# Altium schematic symbol library SchematicLibrary.SchLib: 20 symbols
Pins are listed as number, name and electrical type; pins without a type are passive.

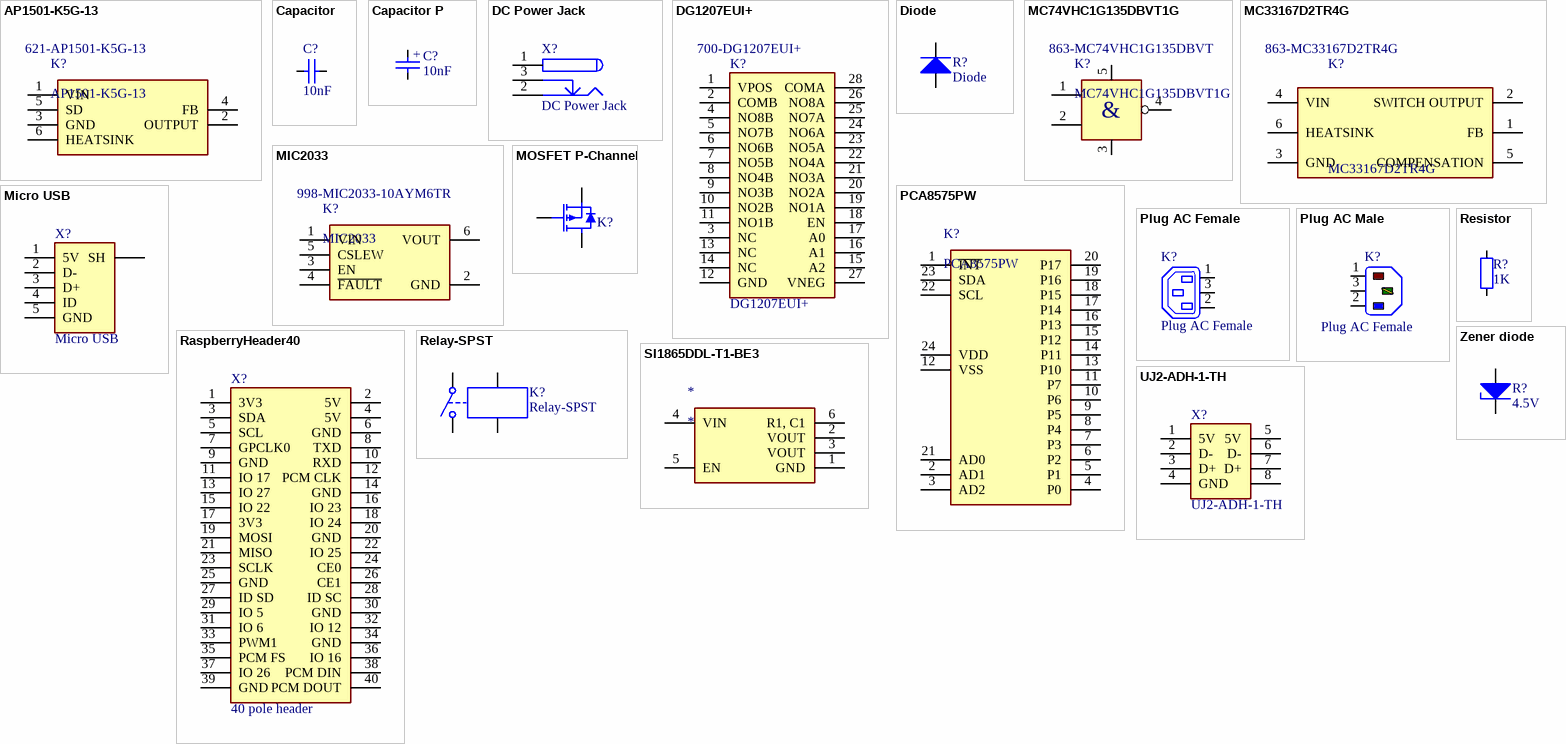
[diagram p0: symbols AP1501-K5G-13 to Zener diode]

## AP1501-K5G-13
designator K?  Supplier Part Number 1: 621-AP1501-K5G-13
Switching Voltage Regulators; ComponentLink1Description: New link; ComponentLink1URL: https://www.mouser.ch/ProductDetail/Diodes-Incorporated/AP1501-K5G-13?qs=%2Fha2pyFaduh7%252BHz23V2KcD1UGDob8qiicWPpp%2F%2FWUHCQ5NeehxH4og%3D%3D; Supplier 1: Mouser
footprint TO-263-5L
pins: 1 VIN, 2 OUTPUT, 3 GND, 4 FB, 5 SD, 6 HEATSINK

## Capacitor
designator C?  value 10nF  (hidden comment: Capacitor)
Non polarized capacitor; LatestRevisionDate: 01.04.2019; Publisher: ICT Berufsbildungscenter AG
footprint CAP CER 0402 R (0402 ceramic capacitor for reflow soldering)
footprint CAP CER 0603 H (0603 ceramic capacitor for hand soldering)
footprint CAP CER 0603 R (0603 ceramic capacitor for reflow soldering)
footprint CAP CER 0805 H (0805 resistor for hand soldering)
footprint CAP CER 0805 R (0805 ceramic capacitor for reflow soldering)
footprint CAP CER 1206 H (1206 ceramic capacitor for hand soldering)
footprint CAP CER 1206 R (1206 ceramic capacitor for reflow soldering)
footprint CAP CER 1210 H (1210 ceramic capacitor for hand soldering)
footprint CAP CER 1210 R (1210 ceramic capacitor for reflow soldering)
footprint CAP FILM 5mm (film capacitor with a 5mm pitch)
footprint CAP FILM 7.5mm (film capacitor with a 7.5mm pitch)
footprint CAP FILM 10mm (film capacitor with a 10mm pitch)
footprint CAP FILM 15mm (film capacitor with a 15mm pitch)
footprint CAP FILM 22.5mm (film capacitor with a 22.5mm pitch)
footprint CAP CER 2.5mm (ceramic capacitor for tht mount with a 2.5mm pitch)
footprint CAP CER 3.75mm (ceramic capacitor for tht mount with a 3.75mm pitch)
footprint CAP CER 5mm (ceramic capacitor for tht mount with a 5mm pitch)
pins: 1, 2

## Capacitor P
designator C?, comment value 10nF  (hidden comment: Capacitor)
Polarized Capacitor; LatestRevisionDate: 02.04.2019; Publisher: ICT Berufsbildungscenter AG
footprint CAP TAN A H (tantalum chip coapcitor casetype A for hand soldering)
footprint CAP TAN A R (tantalum chip coapcitor casetype A for reflow soldering)
footprint CAP TAN B H (tantalum chip coapcitor casetype B for hand soldering)
footprint CAP TAN B R (tantalum chip coapcitor casetype B for reflow soldering)
footprint CAP TAN C H (tantalum chip coapcitor casetype C for hand soldering)
footprint CAP TAN C R (tantalum chip coapcitor casetype C for reflow soldering)
footprint CAP TAN D H (tantalum chip coapcitor casetype D for hand soldering)
footprint CAP TAN D R (tantalum chip coapcitor casetype D for reflow soldering)
footprint CAP TAN R H (tantalum chip coapcitor casetype R for hand soldering)
footprint CAP TAN R R (tantalum chip coapcitor casetype R for reflow soldering)
footprint CAP ELKO 5x7x2 L (aluminium electrolytic capacitor lying on the pcb / d=5, h=7, pitch = 2)
footprint CAP ELKO 5x7x2 S (aluminium electrolytic capacitor standing upright on the pcb / d=5, h=7, pitch = 2)
footprint CAP ELKO 5x11x2 L (aluminium electrolytic capacitor lying on the pcb / d=5, h=11, pitch = 2)
footprint CAP ELKO 5x11x2 S (aluminium electrolytic capacitor standing upright on the pcb / d=5, h=11, pitch = 2)
footprint CAP ELKO 6.3x7x2.5 L (aluminium electrolytic capacitor lying on the pcb / d=6.3, h=7, pitch = 2.5)
footprint CAP ELKO 6.3x7x2.5 S (aluminium electrolytic capacitor standing upright on the pcb / d=6.3, h=7, pitch = 2.5)
footprint CAP ELKO 6.3x11x2 L (aluminium electrolytic capacitor lying on the pcb / d=6.3, h=11, pitch = 2)
footprint CAP ELKO 6.3x11x2 S (aluminium electrolytic capacitor standing upright on the pcb / d=6.3, h=11, pitch = 2)
footprint CAP ELKO 6.3x11x2.5 L (aluminium electrolytic capacitor lying on the pcb / d=6.3, h=11, pitch = 2.5)
footprint CAP ELKO 6.3x11x2.5 S (aluminium electrolytic capacitor standing upright on the pcb / d=6.3, h=11, pitch = 2.5)
footprint CAP ELKO 6.3x12.5x2.5 L (aluminium electrolytic capacitor lying on the pcb / d=6.3, h=12.5, pitch = 2.5)
footprint CAP ELKO 6.3x12.5x2.5 S (aluminium electrolytic capacitor standing upright on the pcb / d=6.3, h=12.5, pitch = 2.5)
footprint CAP ELKO 8x11.5x3.5 L (aluminium electrolytic capacitor lying on the pcb / d=8, h=11.5, pitch = 3.5)
footprint CAP ELKO 8x11.5x3.5 S (aluminium electrolytic capacitor standing upright on the pcb / d=8, h=11.5, pitch = 3.5)
footprint CAP ELKO 10x12.5x5 L (aluminium electrolytic capacitor lying on the pcb / d=10, h=12.5, pitch = 5)
footprint CAP ELKO 10x12.5x5 S (aluminium electrolytic capacitor standing upright on the pcb / d=10, h=12.5, pitch = 5)
footprint CAP ELKO 10x16x5 L (aluminium electrolytic capacitor lying on the pcb / d=10, h=16, pitch = 5)
footprint CAP ELKO 10x16x5 S (aluminium electrolytic capacitor standing upright on the pcb / d=10, h=16, pitch = 5)
footprint CAP ELKO 10x20x5 S (aluminium electrolytic capacitor standing upright on the pcb / d=10, h=20, pitch = 5)
footprint CAP ELKO 10x25x5 S (aluminium electrolytic capacitor standing upright on the pcb / d=10, h=25, pitch = 5)
footprint CAP ELKO 12.5x20x5 S (aluminium electrolytic capacitor standing upright on the pcb / d=12.5, h=20, pitch = 5)
footprint CAP ELKO 12.5x25x5 S (aluminium electrolytic capacitor standing upright on the pcb / d=12.5, h=25, pitch = 5)
footprint CAP ELKO 12.5x30x5 S (aluminium electrolytic capacitor standing upright on the pcb / d=12.5, h=30, pitch = 5)
footprint CAP ELKO 16x20x7.5 S (aluminium electrolytic capacitor standing upright on the pcb / d=16, h=20, pitch = 7.5)
footprint CAP ELKO 16x25x7.5 S (aluminium electrolytic capacitor standing upright on the pcb / d=16, h=25, pitch = 7.5)
footprint CAP ELKO 16x31.5x7.5 S (aluminium electrolytic capacitor standing upright on the pcb / d=16, h=31.5, pitch = 7.5)
footprint CAP ELKO 16x40x7.5 S (aluminium electrolytic capacitor standing upright on the pcb / d=16, h=40, pitch = 7.5)
footprint CAP ELKO 18x20x7.5 S (aluminium electrolytic capacitor standing upright on the pcb / d=18, h=20, pitch = 7.5)
footprint CAP ELKO 18x25x7.5 S (aluminium electrolytic capacitor standing upright on the pcb / d=18, h=25, pitch = 7.5)
footprint CAP ELKO 18x30x7.5 S (aluminium electrolytic capacitor standing upright on the pcb / d=18, h=30, pitch = 7.5)
footprint CAP ELKO 18x40x7.5 S (aluminium electrolytic capacitor standing upright on the pcb / d=18, h=40, pitch = 7.5)
footprint CAP ELKO B H (aluminium electrolytic capacitor surface mount case B)
footprint CAP ELKO C H (aluminium electrolytic capacitor surface mount case C)
footprint CAP ELKO D H (aluminium electrolytic capacitor surface mount case D)
footprint CAP ELKO D8 H (aluminium electrolytic capacitor surface mount case D8)
footprint CAP ELKO E H (aluminium electrolytic capacitor surface mount case E)
footprint CAP ELKO F H (aluminium electrolytic capacitor surface mount case F)
footprint CAP ELKO G H (aluminium electrolytic capacitor surface mount case G)
footprint CAP ELKO H13 H (aluminium electrolytic capacitor surface mount case H13)
footprint CAP ELKO J16 H (aluminium electrolytic capacitor surface mount case J16)
footprint CAP ELKO K16 H (aluminium electrolytic capacitor surface mount case K16)
footprint CAP TAN 2.5mm
pins: A Anode, C Cathode
text: +

## DC Power Jack
designator X?
DC Power Jack 9V
pins: 1, 2, 3

## DG1207EUI+
designator K?  Supplier Part Number 1: 700-DG1207EUI+
Analog Switch ICs; Manufacturer_Name: Maxim Integrated; Datasheet Link: https://datasheets.maximintegrated.com/en/ds/DG1206-DG1207.pdf; Height: 1.1mm; Manufacturer_Part_Number: DG1207EUI+; Mouser Part Number: 700-DG1207EUI+; Mouser Price/Stock: https://www.mouser.co.uk/ProductDetail/Maxim-Integrated/DG1207EUI%2b?qs=DPoM0jnrROX2%252BoIpSyCc8Q%3D%3D; ComponentLink1Description: New link; ComponentLink1URL: https://www.mouser.ch/ProductDetail/Maxim-Integrated/DG1207EUI%2b?qs=DPoM0jnrROX2%252BoIpSyCc8Q%3D%3D; Supplier 1: Mouser
footprint SOP65P640X110-28N
pins: 1 VPOS, 2 COMB, 3 NC, 4 NO8B, 5 NO7B, 6 NO6B, 7 NO5B, 8 NO4B, 9 NO3B, 10 NO2B, 11 NO1B, 12 GND, 13 NC, 14 NC, 15 A2, 16 A1, 17 A0, 18 EN, 19 NO1A, 20 NO2A, 21 NO3A, 22 NO4A, 23 NO5A, 24 NO6A, 25 NO7A, 26 NO8A, 27 VNEG, 28 COMA

## Diode
designator R?
LatestRevisionDate: 03.04.2019; Publisher: ICT Berufsbildungscenter AG
footprint Diode 5mm (Diode for tht mounting with a 5mm pitch)
footprint Diode 7.5mm (Diode for tht mounting with a 7.5mm pitch)
footprint Diode 10mm (Diode for tht mounting with a 10mm pitch)
footprint Diode 12.5mm (Diode for tht mounting with a 12.5mm pitch)
footprint Diode SOD123 H (Diode in SOD123 Case for hand soldering)
footprint Diode SOD123 R (Diode in SOD123 Case for reflow soldering)
footprint Diode DO-214AA SMB H (Diode in DO-214AA (same as SMB) package for hand soldering)
footprint Diode DO-214AB SMC H (Diode in DO-214AB (same as SMC) package for hand soldering)
footprint Diode DO-214AC SMA H (Diode in DO-214AC (same as SMA) package for hand soldering)
footprint Diode DO-214AA SMB R (Diode in DO-214AA (same as SMB) package for reflow soldering)
footprint Diode DO-214AB SMC R (Diode in DO-214AB (same as SMC) package for reflow soldering)
footprint Diode DO-214AC SMA R (Diode in DO-214AC (same as SMA) package for reflow soldering)
pins: A Anode, C Cathode

## MC74VHC1G135DBVT1G
designator K?  Supplier Part Number 1: 863-MC74VHC1G135DBVT
Supplier 1: Mouser
pins: 1 A, 2 B, 3 GND, 4 Y, 5 VCC
text: &

## MC33167D2TR4G
designator K?  Supplier Part Number 1: 863-MC33167D2TR4G
Switching Voltage Regulators; Manufacturer_Name: ON Semiconductor; Datasheet Link: https://www.onsemi.com/pub/Collateral/MC34167-D.PDF; Manufacturer_Part_Number: MC33167D2TR4G; Mouser Part Number: 863-MC33167D2TR4G; Mouser Price/Stock: https://www.mouser.co.uk/ProductDetail/ON-Semiconductor/MC33167D2TR4G?qs=scuLso4UvAPiI8Zw378tbw%3D%3D; Arrow Part Number: MC33167D2TR4G; Arrow Price/Stock: https://www.arrow.com/en/products/mc33167d2tr4g/on-semiconductor; Supplier 1: Mouser
footprint TO-263-5
pins: 1 FB, 2 SWITCH OUTPUT, 3 GND, 4 VIN, 5 COMPENSATION, 6 HEATSINK

## MIC2033
designator K?  Supplier Part Number 1: 998-MIC2033-10AYM6TR
ComponentLink1Description: New link; ComponentLink1URL: https://www.mouser.ch/ProductDetail/Microchip-Technology-Micrel/MIC2033-10AYM6-TR?qs=Y3Q3JoKAO1RvbLJdilrfXQ%3D%3D; Supplier 1: Mouser
pins: 1 VIN, 2 GND, 3 EN, 4 ~{FAULT}, 5 CSLEW, 6 VOUT

## Micro USB
designator X?
board to board header; LatestRevisionDate: 02.05.2019; Publisher: ICT Berufsbildungscenter AG
footprint Header THT female 1x5 (header for tht mounting / pitch = 2.54mm)
footprint Header THT female 1x5 RA (right angled header for tht mounting / pitch = 2.54mm)
footprint Header THT male 1x5 (header for tht mounting / pitch = 2.54mm)
footprint Header THT male 1x5 RA (right angle header for tht mounting / pitch = 2.54mm)
footprint Header SMD Male 1x5 R (male header for smd mounting / pitch = 2.54mm / reflow soldering)
footprint Header SMD Male 1x5 H (male header for smd mounting / pitch = 2.54mm / hand soldering)
footprint Header SMD Male 1x5 RA H (right angled male header for smd mounting / pitch = 2.54mm / hand soldering)
pins: 1 5V, 2 D-, 3 D+, 4 ID, 5 GND, SH

## MOSFET P-Channel
designator K?  (value not drawn)
pins: 1 G, 2 S, 3 D

## PCA8575PW
designator K?
pins: 1 ~{INT}, 2 AD1, 3 AD2, 4 P0, 5 P1, 6 P2, 7 P3, 8 P4, 9 P5, 10 P6, 11 P7, 12 VSS, 13 P10, 14 P11, 15 P12, 16 P13, 17 P14, 18 P15, 19 P16, 20 P17, 21 AD0, 22 SCL, 23 SDA, 24 VDD

## Plug AC Female
designator K?
IEC Mains Power Outlet, EN60 320-2-2 F Class I, PC Flange Rear Mount, Chassis Socket; PackageDocument: ver.80, 15-Sep-2003; MaximumRating: 10A, 250V a.c. (UL & CSA 15A, 250V a.c.); MountingFixtures: Not drawn on schematic symbol.; PCB_Layout: Complies with manufacturer's recommendation.; DrillSize: Corresponds to nominal value.; Published: 15-Jul-2004; LatestRevisionDate: 15-Jul-2004; LatestRevisionNote: Component Replaced & renamed from "Phonejack".; DatasheetDocument: ver.80, 15-Sep-2003; PackageReference: PX0675/PC; Publisher: Altium Limited; Terminations: P.C. Spills; ComponentLink1Description: Manufacturer Link; ComponentLink1URL: http://www.bulgin.co.uk/
footprint IEC7-2H3 (Mains Power Outlet, IEC60 320-2-2 F, PC Flange Rear Mount)
pins: 1 L (power) "Live (Active)", 2 N (power) "Neutral", 3 E (power) "Earth (Ground)"

## Plug AC Male
designator K?, comment Plug AC Female
IEC Mains Power Inlet, EN60 320-1 C14 Class I Cold Condition, PC Flange Rear Mount, Chassis Plug; PackageDocument: ver.80, 15-Sep-2003; MaximumRating: 10A, 250V a.c. (UL & CSA 15A, 250V a.c.); MountingFixtures: Not drawn on schematic symbol.; PCB_Layout: Complies with manufacturer's recommendation.; DrillSize: Corresponds to nominal value.; Note: IEC Color Scheme employed for L, N and E.; Published: 15-Jul-2004; LatestRevisionDate: 15-Jul-2004; LatestRevisionNote: Component Replaced.; DatasheetDocument: ver.80, 15-Sep-2003; PackageReference: PX0580/PC; Publisher: Altium Limited; Terminations: P.C. Spills; ComponentLink1Description: Manufacturer Link; ComponentLink1URL: http://www.bulgin.co.uk/
footprint IEC9.14-2H3 (Mains Power Inlet, IEC60 320-1 C14, PC Flange Rear Mount)
pins: 1 L "Live (Active)", 2 N "Neutral", 3 E "Earth (Ground)"

## RaspberryHeader40
designator X?, comment 40 pole header
board to board header; LatestRevisionDate: 02.05.2019; Publisher: ICT Berufsbildungscenter AG
footprint Header THT female 2x20 (header for tht mounting / pitch = 2.54mm)
footprint Header THT female 2x20 RA (right angled header for tht mounting / pitch = 2.54mm)
footprint Header THT male 2x20 (header for tht mounting / pitch = 2.54mm)
footprint Header THT male 2x20 RA (right angle header for tht mounting / pitch = 2.54mm)
footprint Header SMD Male 2x20 H (male header for smd mounting / pitch = 2.54mm / hand soldering)
footprint Header SMD Male 2x20 R (male header for smd mounting / pitch = 2.54mm / reflow soldering)
pins: 1 3V3, 2 5V, 3 SDA, 4 5V, 5 SCL, 6 GND, 7 GPCLK0, 8 TXD, 9 GND, 10 RXD, 11 IO 17, 12 PCM CLK, 13 IO 27, 14 GND, 15 IO 22, 16 IO 23, 17 3V3, 18 IO 24, 19 MOSI, 20 GND, 21 MISO, 22 IO 25, 23 SCLK, 24 CE0, 25 GND, 26 CE1, 27 ID SD, 28 ID SC, 29 IO 5, 30 GND, 31 IO 6, 32 IO 12, 33 PWM1, 34 GND, 35 PCM FS, 36 IO 16, 37 IO 26, 38 PCM DIN, 39 GND, 40 PCM DOUT

## Relay-SPST
designator K?
Single-Pole Single-Throw Relay; Published: 24-Mar-1999; LatestRevisionDate: 17-Jul-2002; LatestRevisionNote: Re-released for DXP Platform.; PackageReference: MODULE4; Publisher: Altium Limited
footprint MODULE4 (DIP; 4 Round Pins; Row Space 27.94 mm; Pitch 15.24 mm)
simulation model SPSTRELAY (Spice Subcircuit)
pins: 1, 2, 3, 4

## Resistor
designator R?  value 1K  (hidden comment: Resistor)
LatestRevisionDate: 02.04.2019; Publisher: ICT Berufsbildungscenter AG
footprint RES 0402 R (0402 resistor for reflow soldering)
footprint RES 0603 H (0603 resistor for hand soldering)
footprint RES 0603 R (0603 resistor for reflow soldering)
footprint RES 0805 H (0805 resistor for hand soldering)
footprint RES 0805 R (0805 resistor for reflow soldering)
footprint RES 1206 H (1206 resistor for hand soldering)
footprint RES 1206 R (1206 resistor for reflow soldering)
footprint RES 7.5mm (resistor for tht mounting with a 7.5mm pitch)
footprint RES 10mm (resistor for tht mounting with a 10mm pitch)
pins: 1, 2

## SI1865DDL-T1-BE3
designator *
footprint SOT-363
pins: 1 GND, 2 VOUT, 3 VOUT, 4 VIN, 5 EN, 6 R1, C1

## UJ2-ADH-1-TH
designator X?
USB Type A; Manufacturer_Name: CUI Inc.; Datasheet Link: http://www.cui.com/product/resource/uj2-adh-th.pdf; Manufacturer_Part_Number: UJ2-ADH-1-TH; Mouser Part Number: 490-UJ2-ADH-1-TH; Mouser Price/Stock: https://www.mouser.co.uk/ProductDetail/CUI-Devices/UJ2-ADH-1-TH/?qs=5mqXD9RfOg1bQeR60A16hA%3D%3D; Arrow Part Number: UJ2-ADH-1-TH; Arrow Price/Stock: https://www.arrow.com/en/products/uj2-adh-1-th/cui-devices
footprint UJ2-ADH-1-TH
pins: 1 5V, 2 D-, 3 D+, 4 GND, 5 5V, 6 D-, 7 D+, 8 GND

## Zener diode
designator R?  value 4.5V  (hidden comment: Zener diode)
LatestRevisionDate: 24.01.2020; Publisher: ICT Berufsbildungscenter AG
footprint Diode 5mm (Diode for tht mounting with a 5mm pitch)
footprint Diode 7.5mm (Diode for tht mounting with a 7.5mm pitch)
footprint Diode 10mm (Diode for tht mounting with a 10mm pitch)
footprint Diode 12.5mm (Diode for tht mounting with a 12.5mm pitch)
footprint Diode SOD123 H (Diode in SOD123 Case for hand soldering)
footprint Diode SOD123 R (Diode in SOD123 Case for reflow soldering)
footprint Diode DO-214AA SMB H (Diode in DO-214AA (same as SMB) package for hand soldering)
footprint Diode DO-214AA SMB R (Diode in DO-214AA (same as SMB) package for reflow soldering)
footprint Diode DO-214AB SMC H (Diode in DO-214AB (same as SMC) package for hand soldering)
footprint Diode DO-214AB SMC R (Diode in DO-214AB (same as SMC) package for reflow soldering)
footprint Diode DO-214AC SMA H (Diode in DO-214AC (same as SMA) package for hand soldering)
footprint Diode DO-214AC SMA R (Diode in DO-214AC (same as SMA) package for reflow soldering)
pins: A Anode, C Cathode